# Altium footprint library 水杯V1.1_ZM_202107021.PcbLib: 27 footprints (part 2 of 2)
Each footprint in its own frame and in the unit in brackets; x right, y up, seen from the top. Pads: shape width x height; smd on the part's side, far side on the other; paste and mask are expansions set on the pad; w line width, h text height; cw(c..) or ccw(c..) is an arc to the next point about the centre after c.
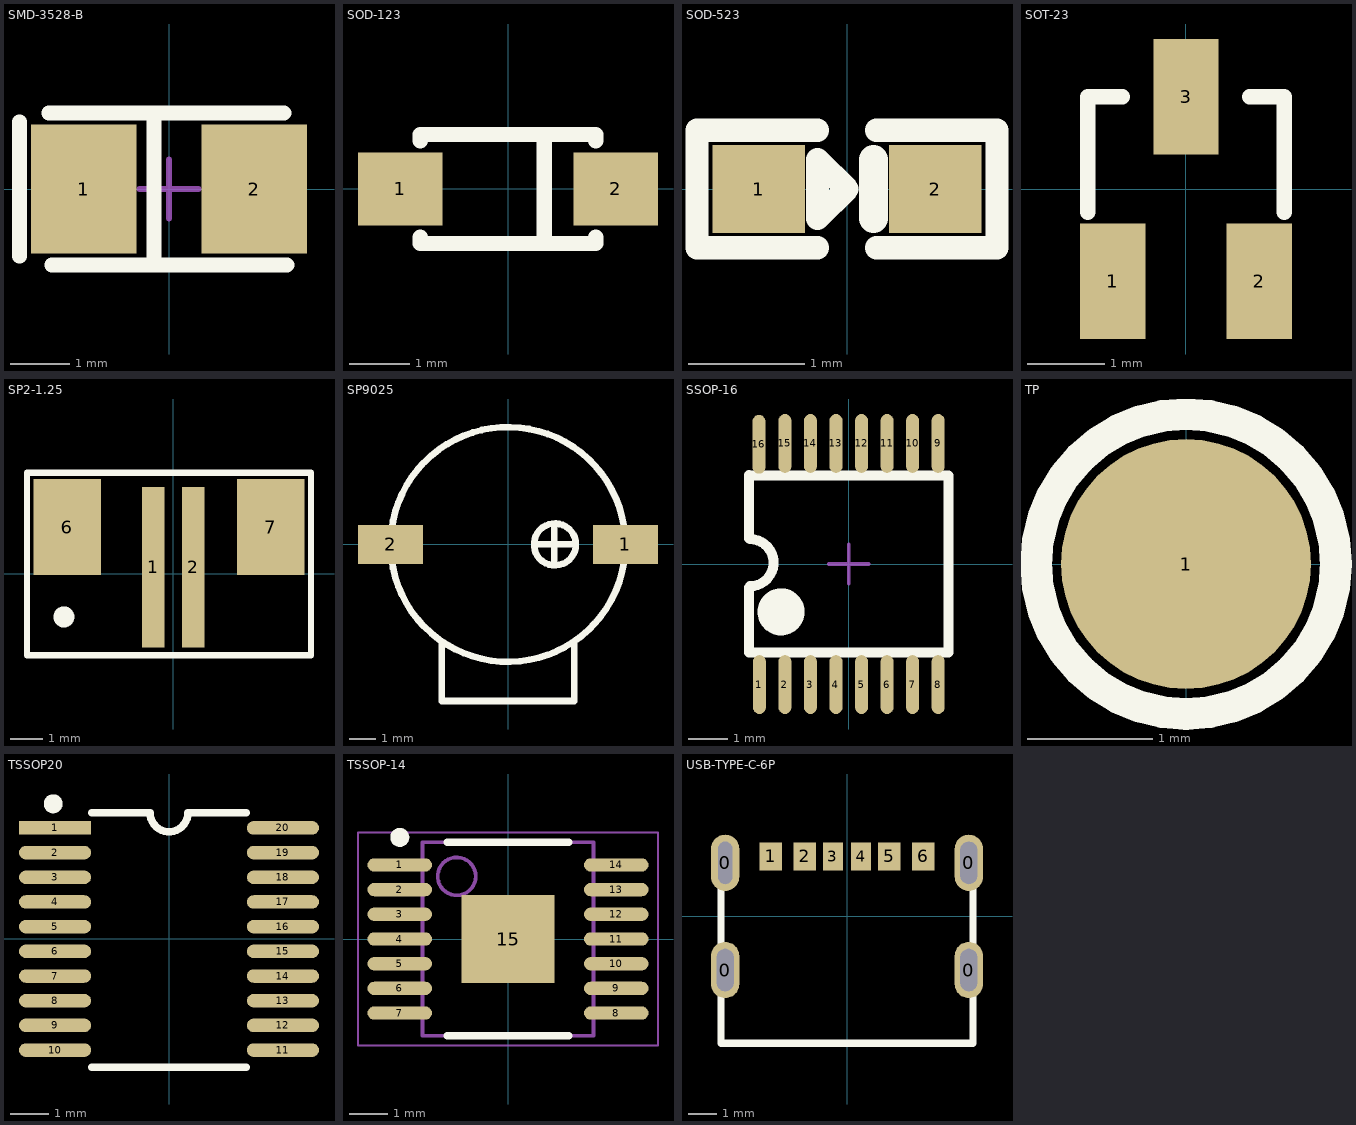
[diagram p1: the footprints below, top view; thin cyan lines are the x and y axes]

## SMD-3528-B [mm]
pads (2):
  rect 1.8x2.2 smd: 1(-1.45,0) 2(1.45,0)
Top Overlay:
  lines w0.254: -2.54,-1.143 -2.54,1.143 ; -2.044,1.295 1.956,1.295 ; -1.993,-1.295 2.007,-1.295 ; -0.254,-1.27 -0.254,1.27
Mechanical 15:
  lines w0.1: -0.5,0 0.5,0 ; 0,-0.5 0,0.5
3D body "CAP_3528.STEP": height 2.03, standoff 0, extent -1.85,-1.465 1.85,1.465

## SOD-123 [mm]
pads (2):
  rect 1.4x1.2 smd: 1(-1.778,0) 2(1.778,0)
Top Overlay:
  lines w0.254: -1.45,-0.8 -1.45,-0.9 1.45,-0.9 1.45,-0.8 ; -1.45,0.8 -1.45,0.9 1.45,0.9 1.45,0.8 ; 0.6,-0.9 0.6,0.9
3D body "SOD-123.STEP": height 1.2, standoff 0, extent -1.85,-0.8 1.85,0.8

## SOD-523 [mil]
pads (2):
  rect 31.5x30 smd: 1(-30,0) 2(30,0)
Top Overlay:
  lines w7.87: -51,-20 -51,20 ; -50,-20 -10,-20 ; -50,20 -10,20 ; 10,-20 50,-20 ; 10,20 50,20 ; 51,-20 51,20 ; -10,-10 -10,10 0,0 -10,-10
  lines w10: 9,-10 9,10
3D body "SOD-523.STEP": height 25.59, standoff 0, extent -31.49,-15.74 31.51,15.75

## SOT-23 [mm]
pads (3):
  rect 0.85x1.5 smd: 1(-0.95,-1.2) 2(0.95,-1.2) 3(0,1.2)
Top Overlay:
  lines w0.2: -1.275,-0.3 -1.275,1.2 -0.825,1.2 ; 0.825,1.2 1.275,1.2 1.275,-0.3
3D body "SOT-23-3.STEP": height 1.2, standoff 0, extent -1.45,-1.4 1.45,1.4

## SP2-1.25 [mm]
pads (4):
  rect 0.7x5 smd: 1(-0.625,0.201) 2(0.625,0.201)
  rect 2.1x3 smd: 6(-3.302,1.45) 7(3.048,1.45)
Top Overlay:
  circle w0.4: c-3.402,-1.35 r0.127
  lines w0.2: -4.552,-2.55 4.298,-2.55 4.298,3.15 -4.552,3.15 -4.552,-2.55

## SP9025 [mm]
pads (2):
  rect 2.5x1.5 smd: 1(4.5,0) 2(-4.5,0)
Top Overlay:
  circle w0.254: c1.8,0 r0.803
  circle w0.254: c0,0 r4.5
  lines w0.254: -2.54,-3.81 -2.54,-6 2.54,-6 2.54,-3.81 ; 1.016,0 2.54,0 ; 1.778,-0.762 1.778,0.762

## SSOP-16 [mm]
pads (16):
  oval 0.33x1.5 smd: 1(-2.275,-3.069) 2(-1.625,-3.069) 3(-0.975,-3.069) 4(-0.325,-3.069) 5(0.325,-3.069) 6(0.975,-3.069) 7(1.625,-3.069) 8(2.275,-3.069) 9(2.275,3.069) 10(1.625,3.069) 11(0.975,3.069) 12(0.325,3.069) 13(-0.325,3.069) 14(-0.975,3.069) 15(-1.625,3.069) 16(-2.286,3.048)
Top Overlay:
  circle w0.6: c-1.722,-1.219 r0.3
  lines w0.254: -2.54,-0.6 -2.54,-2.25 2.54,-2.25 2.54,2.25 -2.54,2.25 ; -2.54,0.654 -2.54,2.261 ; -2.515,-0.565 ccw(c-2.515,0.035) -2.515,0.635
Mechanical 15:
  lines w0.1: -0.5,0 0.5,0 ; 0,-0.5 0,0.5

## TP [mm]
pads (1):
  round 2 smd: 1(0,0)
Top Overlay:
  circle w0.254: c0,0 r1.2

## TSSOP20 [mm]
pads (20):
  rect 1.9x0.356 smd: 1(-3,2.921)
  oval 1.9x0.356 smd: 2(-3,2.271) 3(-3,1.621) 4(-3,0.971) 5(-3,0.321) 6(-3,-0.329) 7(-3,-0.979) 8(-3,-1.629) 9(-3,-2.279) 10(-3,-2.929) 11(3,-2.929) 12(3,-2.279) 13(3,-1.629) 14(3,-0.979) 15(3,-0.329) 16(3,0.321) 17(3,0.971) 18(3,1.621) 19(3,2.271) 20(3,2.921)
Top Overlay:
  circle w0.25: c-3.048,3.556 r0.125
  lines w0.2: -0.5,3.321 ccw(c0,3.321) 0.5,3.321
  lines w0.203: -2.032,-3.379 2.032,-3.379 ; -2.032,3.321 -0.508,3.321 ; 0.508,3.321 2.032,3.321
3D body "SW3dPS-TSSOP-20.STEP": height 1.2, standoff 0, extent -3.275,-3.3 3.275,3.3

## TSSOP-14 [mm]
pads (15):
  oval 1.7x0.35 smd: 1(-2.85,1.95) 2(-2.85,1.3) 3(-2.85,0.65) 4(-2.85,0) 5(-2.85,-0.65) 6(-2.85,-1.3) 7(-2.85,-1.95) 8(2.85,-1.95) 9(2.85,-1.3) 10(2.85,-0.65) 11(2.85,0) 12(2.85,0.65) 13(2.85,1.3) 14(2.85,1.95)
  rect 2.46x2.31 smd: 15(0,0)
Top Overlay:
  circle w0.25: c-2.85,2.675 r0.125
  lines w0.2: -1.6,-2.55 1.6,-2.55 ; -1.6,2.55 1.6,2.55
Mechanical 13:
  circle w0.1: c-1.35,1.65 r0.5
  lines w0.1: -2.25,-2.55 -2.25,2.55 2.25,2.55 2.25,-2.55 -2.25,-2.55
Mechanical 15:
  lines w0.05: -3.95,-2.8 -3.95,2.8 3.95,2.8 3.95,-2.8 -3.95,-2.8
  lines w0.1: -0.5,0 0.5,0 ; 0,-0.5 0,0.5
3D body: height 1.2, standoff 0.15, extent -2.25,-2.55 2.25,2.55

## USB-TYPE-C-6P [mm]
pads (10):
  oval 1x2 hole 0.6 slot 1.5 at 90 deg: 0(-4.32,-1.9) 0(4.32,-1.9) 0(4.32,1.9)
  oval 1x2 hole 0.5 slot 1.5 at 90 deg: 0(-4.32,1.9)
  rect 0.8x1 smd: 1(-2.7,2.126) 2(-1.5,2.126) 5(1.5,2.126) 6(2.7,2.126)
  rect 0.7x1 smd: 3(-0.5,2.126) 4(0.5,2.126)
Top Overlay:
  lines w0.254: -4.47,-4.5 4.47,-4.5 ; -4.47,-4.445 -4.47,1.455 ; 4.47,-4.445 4.47,1.455
3D body "User Library-1054500101.STEP": height 3.08, standoff -0.88, extent -4.47,-5.208 4.47,2.692